# EAGLE library part TRANS1:2 (library simple-parts)
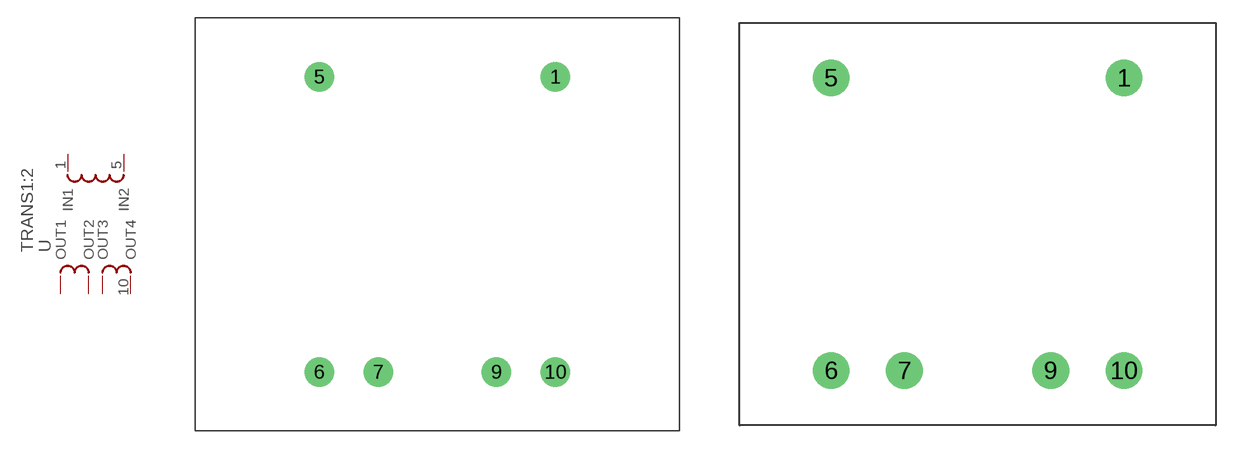
[diagram p2: symbol with the pads of TRANS1:2-41W35L; footprints TRANS1:2-41W35L, TRANS1:2-32.5W27.5L]

Designator prefix -

## TRANS1:2TRANS1:2-41W35L  [TRANS1:2-41W35L]
1  IN1
5  IN2
6  OUT1  pas
7  OUT2  pas
9  OUT3  pas
10  OUT4  pas

## TRANS1:2TRANS1:2-32.5W27.5L  [TRANS1:2-32.5W27.5L]
Pads as for TRANS1:2-41W35L

## Footprint TRANS1:2-41W35L (pad centres in mm)
drill 0.9 pad 2.5: 1 10,12.5; 5 -10,12.5; 6 -10,-12.5; 7 -5,-12.5; 9 5,-12.5; 10 10,-12.5

## Footprint TRANS1:2-32.5W27.5L (pad centres in mm)
drill 0.9 pad 2.5: 1 10,10; 5 -10,10; 6 -10,-10; 7 -5,-10; 9 5,-10; 10 10,-10